# Altium integrated library XTR116UA.IntLib: 1 symbol
Pins are listed as number, name and electrical type; pins without a type are passive.

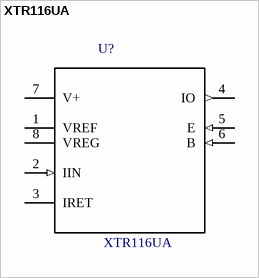
[diagram p0: symbol XTR116UA]

## XTR116UA
designator U?
Sensors, Sensor Conditioning, 4-20mA Transmitters 4-20mA Current Loop Transmitters; MF: Texas Instruments; SnapEDA_Link: https://www.snapeda.com/parts/XTR116UA/Texas%20Instruments/view-part/?ref=snap; MP: XTR116UA; Availability: Unavailable; Price: None; Package: SOIC-8 Texas Instruments; Value: *
footprint *SOIC127P600X175-8N
pins: 1 VREF, 2 IIN (in), 3 IRET, 4 IO (out), 5 E (in), 6 B (in), 7 V+ (power), 8 VREG